# Altium schematic symbol library Device.SchLib: 2 symbols
Pins are listed as number, name and electrical type; pins without a type are passive.

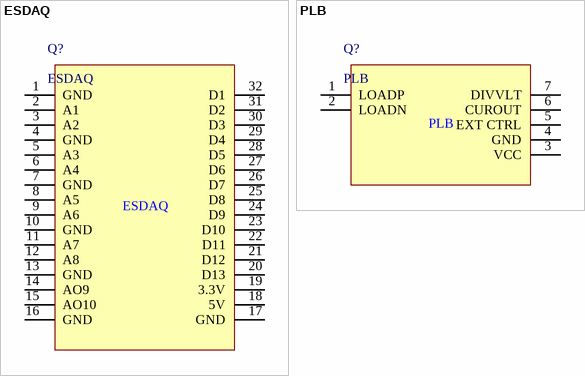
[diagram p0: symbols ESDAQ to PLB]

## ESDAQ
designator Q?
pins: 1 GND, 2 A1, 3 A2, 4 GND, 5 A3, 6 A4, 7 GND, 8 A5, 9 A6, 10 GND, 11 A7, 12 A8, 13 GND, 14 AO9, 15 AO10, 16 GND, 17 GND, 18 5V, 19 3.3V, 20 D13, 21 D12, 22 D11, 23 D10, 24 D9, 25 D8, 26 D7, 27 D6, 28 D5, 29 D4, 30 D3, 31 D2, 32 D1

## PLB
designator Q?
pins: 1 LOADP, 2 LOADN, 3 VCC, 4 GND, 5 EXT CTRL, 6 CUROUT, 7 DIVVLT